# Altium schematic symbol library BTS7960.SchLib: 1 symbol
Pins are listed as number, name and electrical type; pins without a type are passive.

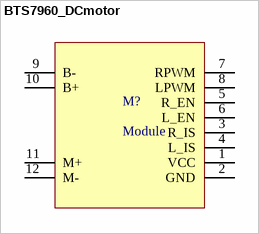
[diagram p0: symbol BTS7960_DCmotor]

## BTS7960_DCmotor
designator M?, comment Module
footprint PCBComponent_1
pins: 1 VCC, 2 GND, 3 R_IS, 4 L_IS, 5 R_EN, 6 L_EN, 7 RPWM, 8 LPWM, 9 B-, 10 B+, 11 M+, 12 M-